# Altium footprint library liuxiaolong.PcbLib: 61 footprints (part 3 of 4)
Each footprint in its own frame and in the unit in brackets; x right, y up, seen from the top. Pads: shape width x height; smd on the part's side, far side on the other; paste and mask are expansions set on the pad; w line width, h text height; cw(c..) or ccw(c..) is an arc to the next point about the centre after c.
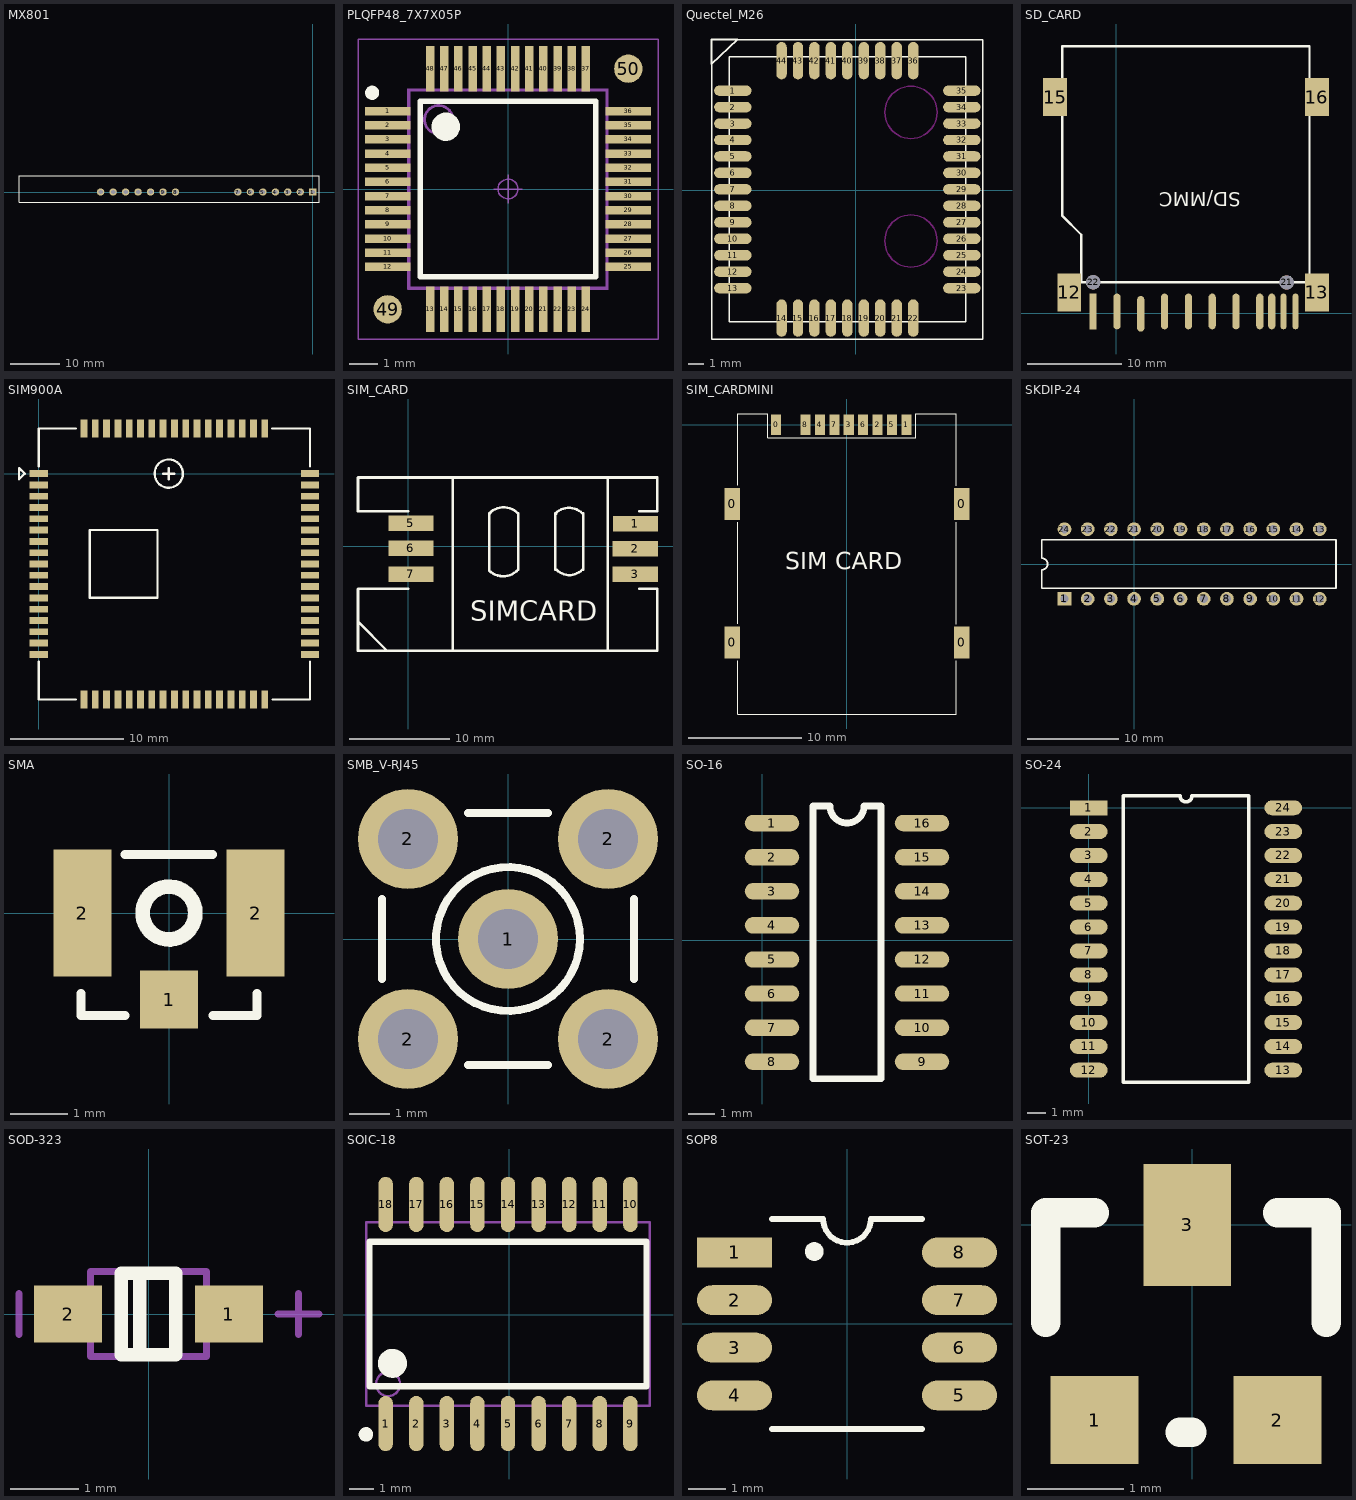
[diagram p2: the footprints below, top view; thin cyan lines are the x and y axes]

## MX801 [mm]
height 80
pads (14):
  rect 1.5x1.5 hole 0.9: 1(0,0)
  round 1.5 hole 0.9: 2(-2.54,0) 3(-5.08,0) 4(-7.62,0) 5(-10.16,0) 6(-12.7,0) 7(-15.24,0) 8(-27.94,0) 9(-30.48,0) 10(-33.02,0) 11(-35.56,0) 12(-38.1,0) 13(-40.64,0) 14(-43.18,0)
Top Overlay:
  lines w0.2: -59.8,-2.125 -59.8,3.35 1.27,3.35 1.27,-2.125 -1.49,-2.125 -59.8,-2.125

## PLQFP48_7X7X05P [mm]
height 10
pads (50):
  rect 1.6x0.3 smd: 1(-4.25,2.75) 2(-4.25,2.25) 3(-4.25,1.75) 4(-4.25,1.25) 5(-4.25,0.75) 6(-4.25,0.25) 7(-4.25,-0.25) 8(-4.25,-0.75) 9(-4.25,-1.25) 10(-4.25,-1.75) 11(-4.25,-2.25) 12(-4.25,-2.75) 25(4.25,-2.75) 26(4.25,-2.25) 27(4.25,-1.75) 28(4.25,-1.25) 29(4.25,-0.75) 30(4.25,-0.25) 31(4.25,0.25) 32(4.25,0.75) 33(4.25,1.25) 34(4.25,1.75) 35(4.25,2.25) 36(4.25,2.75)
  rect 0.3x1.6 smd: 13(-2.75,-4.25) 14(-2.25,-4.25) 15(-1.75,-4.25) 16(-1.25,-4.25) 17(-0.75,-4.25) 18(-0.25,-4.25) 19(0.25,-4.25) 20(0.75,-4.25) 21(1.25,-4.25) 22(1.75,-4.25) 23(2.25,-4.25) 24(2.75,-4.25) 37(2.75,4.25) 38(2.25,4.25) 39(1.75,4.25) 40(1.25,4.25) 41(0.75,4.25) 42(0.25,4.25) 43(-0.25,4.25) 44(-0.75,4.25) 45(-1.25,4.25) 46(-1.75,4.25) 47(-2.25,4.25) 48(-2.75,4.25)
  round 1 smd: 49(-4.25,-4.25) 50(4.25,4.25)
Top Overlay:
  circle w0.25: c-4.8,3.4 r0.125
  circle w0.5: c-2.2,2.2 r0.25
  lines w0.2: -3.1,-3.1 3.1,-3.1 3.1,3.1 -3.1,3.1 -3.1,-3.1
Mechanical 15:
  circle w0.1: c-2.45,2.45 r0.5
  lines w0.1: -3.5,-3.5 3.5,-3.5 3.5,3.5 -3.5,3.5 -3.5,-3.5
Mechanical 16:
  circle w0.05: c0,0 r0.35
  lines w0.001: -3.55,-3.55 3.55,-3.55 3.55,3.55 -3.55,3.55 -3.55,-3.55
  lines w0.05: -0.5,0 0.5,0 ; 0,-0.5 0,0.5 ; -5.3,-5.3 5.3,-5.3 5.3,5.3 -5.3,5.3 -5.3,-5.3

## Quectel_M26 [mm]
height 0.254
pads (44):
  oval 2.5x0.7 smd: 1(-8.2,6.675) 2(-8.2,5.575) 3(-8.2,4.475) 4(-8.2,3.375) 5(-8.2,2.275) 6(-8.2,1.175) 7(-8.2,0.075) 8(-8.2,-1.025) 9(-8.2,-2.125) 10(-8.2,-3.225) 11(-8.2,-4.325) 12(-8.2,-5.425) 13(-8.2,-6.525) 23(7.1,-6.525) 24(7.1,-5.425) 25(7.1,-4.325) 26(7.1,-3.225) 27(7.1,-2.125) 28(7.1,-1.025) 29(7.1,0.075) 30(7.1,1.175) 31(7.1,2.275) 32(7.1,3.375) 33(7.1,4.475) 34(7.1,5.575) 35(7.1,6.675)
  oval 0.7x2.5 smd: 14(-4.95,-8.525) 15(-3.85,-8.525) 16(-2.75,-8.525) 17(-1.65,-8.525) 18(-0.55,-8.525) 19(0.55,-8.525) 20(1.65,-8.525) 21(2.75,-8.525) 22(3.85,-8.525) 36(3.85,8.675) 37(2.75,8.675) 38(1.65,8.675) 39(0.55,8.675) 40(-0.55,8.675) 41(-1.65,8.675) 42(-2.75,8.675) 43(-3.85,8.675) 44(-4.95,8.675)
Top Overlay:
  lines w0.1: -9.65,8.427 -9.65,10.125 -7.889,10.125 -9.65,8.427 ; -9.6,-9.925 -9.6,10.075 8.5,10.075 8.5,-9.925 -9.6,-9.925 ; -8.45,-8.775 -8.45,8.925 7.35,8.925 7.35,-8.775 -8.45,-8.775
Keep-Out Layer:
  circle w0.1: c3.7,5.225 r1.75
  circle w0.1: c3.7,-3.375 r1.75

## SD_CARD [mil]
height 5
pads (17):
  oval 30x150 smd: 1(2.05,6.61) 2(102.05,-3.39) 3(202.05,6.61) 4(302.05,6.61) 5(402.05,6.61) 6(502.05,6.61) 7(602.05,6.61) 8(652.05,6.61)
  rect 30x150 smd: 9(-97.95,6.61)
  oval 25x150 smd: 10(702.05,6.61) 11(752.05,6.61)
  rect 100x160 smd: 12(-197.95,86.61) 13(842.05,86.61) 15(-257.95,906.61) 16(842.05,906.61)
  round 60 hole 60: 21(714.65,128.66) 22(-97.95,129.06)
Top Overlay:
  lines w10: 810.71,129.45 810.71,1120.39 -228.27,1120.39 -228.27,409.37 -147.95,329.06 ; 811.1,129.06 -147.95,129.06 -147.95,329.06 ; -147.95,329.06 -147.95,329.06
  text "SD/MMC" at 522.05,506.61 h60

## SIM900A [mm]
pads (68):
  rect 1.6x0.6 smd: 1(0,0) 2(0,-1) 3(0,-2) 4(0,-3) 5(0,-4) 6(0,-5) 7(0,-6) 8(0,-7) 9(0,-8) 10(0,-9) 11(0,-10) 12(0,-11) 13(0,-12) 14(0,-13) 15(0,-14) 16(0,-15) 17(0,-16) 35(24,-16) 36(24,-15) 37(24,-14) 38(24,-13) 39(24,-12) 40(24,-11) 41(24,-10) 42(24,-9) 43(24,-8) 44(24,-7) 45(24,-6) 46(24,-5) 47(24,-4) 48(24,-3) 49(24,-2) 50(24,-1) 51(24,0)
  rect 0.6x1.6 smd: 18(4,-20) 19(5,-20) 20(6,-20) 21(7,-20) 22(8,-20) 23(9,-20) 24(10,-20) 25(11,-20) 26(12,-20) 27(13,-20) 28(14,-20) 29(15,-20) 30(16,-20) 31(17,-20) 32(18,-20) 33(19,-20) 34(20,-20) 52(20,4) 53(19,4) 54(18,4) 55(17,4) 56(16,4) 57(15,4) 58(14,4) 59(13,4) 60(12,4) 61(11,4) 62(10,4) 63(9,4) 64(8,4) 65(7,4) 66(6,4) 67(5,4) 68(4,4)
Top Overlay:
  circle w0.203: c11.5,0 r1.25
  lines w0.1: -1.75,-0.5 -1.25,0 -1.75,0.5 -1.75,-0.5
  lines w0.203: 0,-16.637 0,-20 3.302,-20 ; 0,0.635 0,4 3.302,4 ; 11,0 12,0 ; 11.5,-0.5 11.5,0.5 ; 20.637,4 24,4 24,0.635 ; 20.701,-20 24,-20 24,-16.637 ; -1.75,-0.5 -1.25,0 -1.75,0.5 -1.75,-0.5 ; 4.5,-11 4.5,-5 10.5,-5 10.5,-11 4.5,-11

## SIM_CARD [mil]
pads (6):
  rect 177.17x60 smd: 1(889.91,88.03) 2(889.13,-9.61) 3(889.13,-109.61) 5(10,90.39) 6(10,-7.64) 7(10,-110)
Top Overlay:
  lines w10: -197.54,-167.24 -197.54,-409.25 975.69,-409.25 ; -197.54,136.89 -197.54,269.76 974.71,269.76 ; -196.55,-166.26 0.3,-166.26 ; -196.55,136.89 0.04,136.89 ; -83.36,-409.25 -197.18,-295.44 ; 174.44,-409.25 174.44,270.75 ; 316.17,-95.39 ccw(c371.29,-36.34) 430.35,-91.46 430.35,129.02 ccw(c373.26,71.93) 316.17,129.02 ; 316.17,-91.46 316.17,125.08 ; 576.02,-91.46 576.02,125.08 ; 576.02,129.02 cw(c629.17,75.87) 682.31,129.02 ; 579.95,-91.46 ccw(c631.13,-40.28) 682.31,-91.46 ; 686.25,-91.46 686.25,129.02 ; 780.74,270.75 780.74,-319.8 ; 905,-166.26 975.69,-166.26 975.69,-409.25 ; 905,136.89 975.69,136.89 975.69,268.78 ; -197.18,-295.44 -197.18,-293.85 -197.18,-295.44 ; 316.17,125.08 320.11,129.02 316.17,125.08 ; 576.02,125.08 579.95,129.02 576.02,125.08 ; 780.74,-409.25 975.69,-409.25 ; 780.74,-409.25 780.74,-319.8 ; 780.74,-409.25 780.74,-319.8 ; 974.71,269.76 975.69,268.78 ; 974.71,269.76 975.69,268.78 ; -81.78,-409.25 -53.91,-409.25 -81.78,-409.25
  text "SIMCARD" at 241.95,-290.81 h78.74

## SIM_CARDMINI [mil]
height 5
pads (13):
  rect 55x110 smd: 0(-398,-755) 0(-398,-275) 0(398,-755) 0(398,-275)
  rect 35x70 smd: 0(-246,0) 1(206,0) 2(106,0) 3(6,0) 4(-94,0) 5(156,0) 6(56,0) 7(-44,0) 8(-144,0)
Top Overlay:
  lines w4: -378,-818 -378,-1003 -368,-1003 378,-1003 378,-818 ; -378,-691 -378,-650 -378,-339 ; -378,-210 -378,37 -275,37 -275,-45 238,-45 238,37 290,37 378,37 378,-211 ; 378,-692 378,-638 378,-338
  text "SIM CARD" at -214,-502 h60

## SKDIP-24 [mm]
pads (24):
  rect 1.5x1.5 hole 0.9: 1(-7.62,-3.81)
  round 1.5 hole 0.9: 2(-5.08,-3.81) 3(-2.54,-3.81) 4(0,-3.81) 5(2.54,-3.81) 6(5.08,-3.81) 7(7.62,-3.81) 8(10.16,-3.81) 9(12.7,-3.81) 10(15.24,-3.81) 11(17.78,-3.81) 12(20.32,-3.81) 13(20.32,3.81) 14(17.78,3.81) 15(15.24,3.81) 16(12.7,3.81) 17(10.16,3.81) 18(7.62,3.81) 19(5.08,3.81) 20(2.54,3.81) 21(0,3.81) 22(-2.54,3.81) 23(-5.08,3.81) 24(-7.62,3.81)
Top Overlay:
  lines w0.2: -10.1,-2.65 -10.1,-0.635 ccw(c-10.1,0) -10.1,0.635 -10.1,2.65 22.098,2.65 22.098,-2.65 -10.1,-2.65

## SMA [mm]
height 0.254
pads (3):
  rect 1x1 smd: 1(0,-1.5)
  rect 1x2.2 smd: 2(-1.5,0) 2(1.5,0)
Top Overlay:
  circle w0.254: c0,0 r0.458
  lines w0.152: -1.524,-1.397 -1.524,-1.778 -0.762,-1.778 ; -0.762,1.016 0.76,1.016 ; 0.762,-1.778 1.524,-1.778 1.524,-1.397

## SMB_V-RJ45 [mm] "Connector; SMB Straight"
pads (5):
  round 2.5 hole 1.5: 1(0,0) 2(-2.5,-2.5) 2(-2.5,2.5) 2(2.5,-2.5) 2(2.5,2.5)
Top Overlay:
  circle w0.2: c0,0 r1.8
  lines w0.2: -3.15,-1 -3.15,1 ; -1,-3.15 1,-3.15 ; -1,3.15 1,3.15 ; 3.15,-1 3.15,1

## SO-16 [mil]
pads (16):
  oval 80x24 smd: 1(14,172) 2(14,122) 3(14,72) 4(14,22) 5(14,-28) 6(14,-78) 7(14,-128) 8(14,-178) 9(234,-178) 10(234,-128) 11(234,-78) 12(234,-28) 13(234,22) 14(234,72) 15(234,122) 16(234,172)
Top Overlay:
  lines w10: 74,-203 74,197 99,197 ccw(c124,197) 149,197 174,197 174,-203 74,-203

## SO-24 [mm]
height 10
pads (24):
  rect 2x0.8 smd: 1(0,0)
  oval 2x0.8 smd: 2(0,-1.27) 3(0,-2.54) 4(0,-3.81) 5(0,-5.08) 6(0,-6.35) 7(0,-7.62) 8(0,-8.89) 9(0,-10.16) 10(0,-11.43) 11(0,-12.7) 12(0,-13.97) 13(10.35,-13.97) 14(10.35,-12.7) 15(10.35,-11.43) 16(10.35,-10.16) 17(10.35,-8.89) 18(10.35,-7.62) 19(10.35,-6.35) 20(10.35,-5.08) 21(10.35,-3.81) 22(10.35,-2.54) 23(10.35,-1.27) 24(10.35,0)
Top Overlay:
  lines w0.2: 1.835,-14.605 1.835,0.635 4.857,0.635 ccw(c5.175,0.635) 5.492,0.635 8.515,0.635 8.515,-14.605 1.835,-14.605

## SOD-323 [mm]
height 30
pads (2):
  rect 1x0.83 smd: 1(1.18,0) 2(-1.18,0)
Top Overlay:
  lines w0.2: -0.13,-0.6 -0.13,0.6 ; -0.4,-0.6 -0.4,0.6 0.4,0.6 0.4,-0.6 -0.4,-0.6
Mechanical 13:
  lines w0.1: -0.85,-0.625 -0.85,0.625 0.85,0.625 0.85,-0.625 -0.85,-0.625
Mechanical 15:
  lines w0.1: -1.9,-0.3 -1.9,0.3 ; 1.9,0 2.5,0 ; 2.2,-0.3 2.2,0.3
3D body: height 1.1, standoff 0, extent -1.35,-0.625 1.35,0.625

## SOIC-18 [mm]
height 20
pads (18):
  oval 0.6x2.3 smd: 1(-5.13,-4.525) 2(-3.86,-4.525) 3(-2.59,-4.525) 4(-1.32,-4.525) 5(-0.05,-4.525) 6(1.22,-4.525) 7(2.49,-4.525) 8(3.76,-4.525) 9(5.03,-4.525) 10(5.03,4.575) 11(3.76,4.575) 12(2.49,4.575) 13(1.22,4.575) 14(-0.05,4.575) 15(-1.32,4.575) 16(-2.59,4.575) 17(-3.86,4.575) 18(-5.13,4.575)
Top Overlay:
  circle w0.3: c-5.95,-4.975 r0.15
  circle w0.6: c-4.85,-2.025 r0.3
  lines w0.254: -5.8,-2.975 -5.8,3.025 5.7,3.025 5.7,-2.975 -5.8,-2.975
Mechanical 13:
  circle w0.1: c-5.03,-2.885 r0.5
  lines w0.1: -5.93,-3.785 -5.93,3.835 5.83,3.835 5.83,-3.785 -5.93,-3.785

## SOP8 [mm]
pads (8):
  rect 2x0.8 smd: 1(-3,1.905)
  oval 2x0.8 smd: 2(-3,0.635) 3(-3,-0.635) 4(-3,-1.905) 5(3,-1.905) 6(3,-0.635) 7(3,0.635) 8(3,1.905)
Top Overlay:
  circle w0.25: c-0.872,1.93 r0.125
  lines w0.152: -2,-2.8 2,-2.8 ; -2,2.8 -0.646,2.8 ; -0.635,2.8 ccw(c0,2.8) 0.635,2.8 2,2.8

## SOT-23 [mil]
pads (3):
  rect 36x36 smd: 1(-40,-80) 2(35,-80)
  rect 36x50 smd: 3(-2,0)
Top Overlay:
  lines w12: -60,-40 -60,5 -40,5 ; -5,-85 0,-85 ; 35,5 55,5 55,-40